# EAGLE library part STM32L151UCY6 (library circuit_tree)
IC
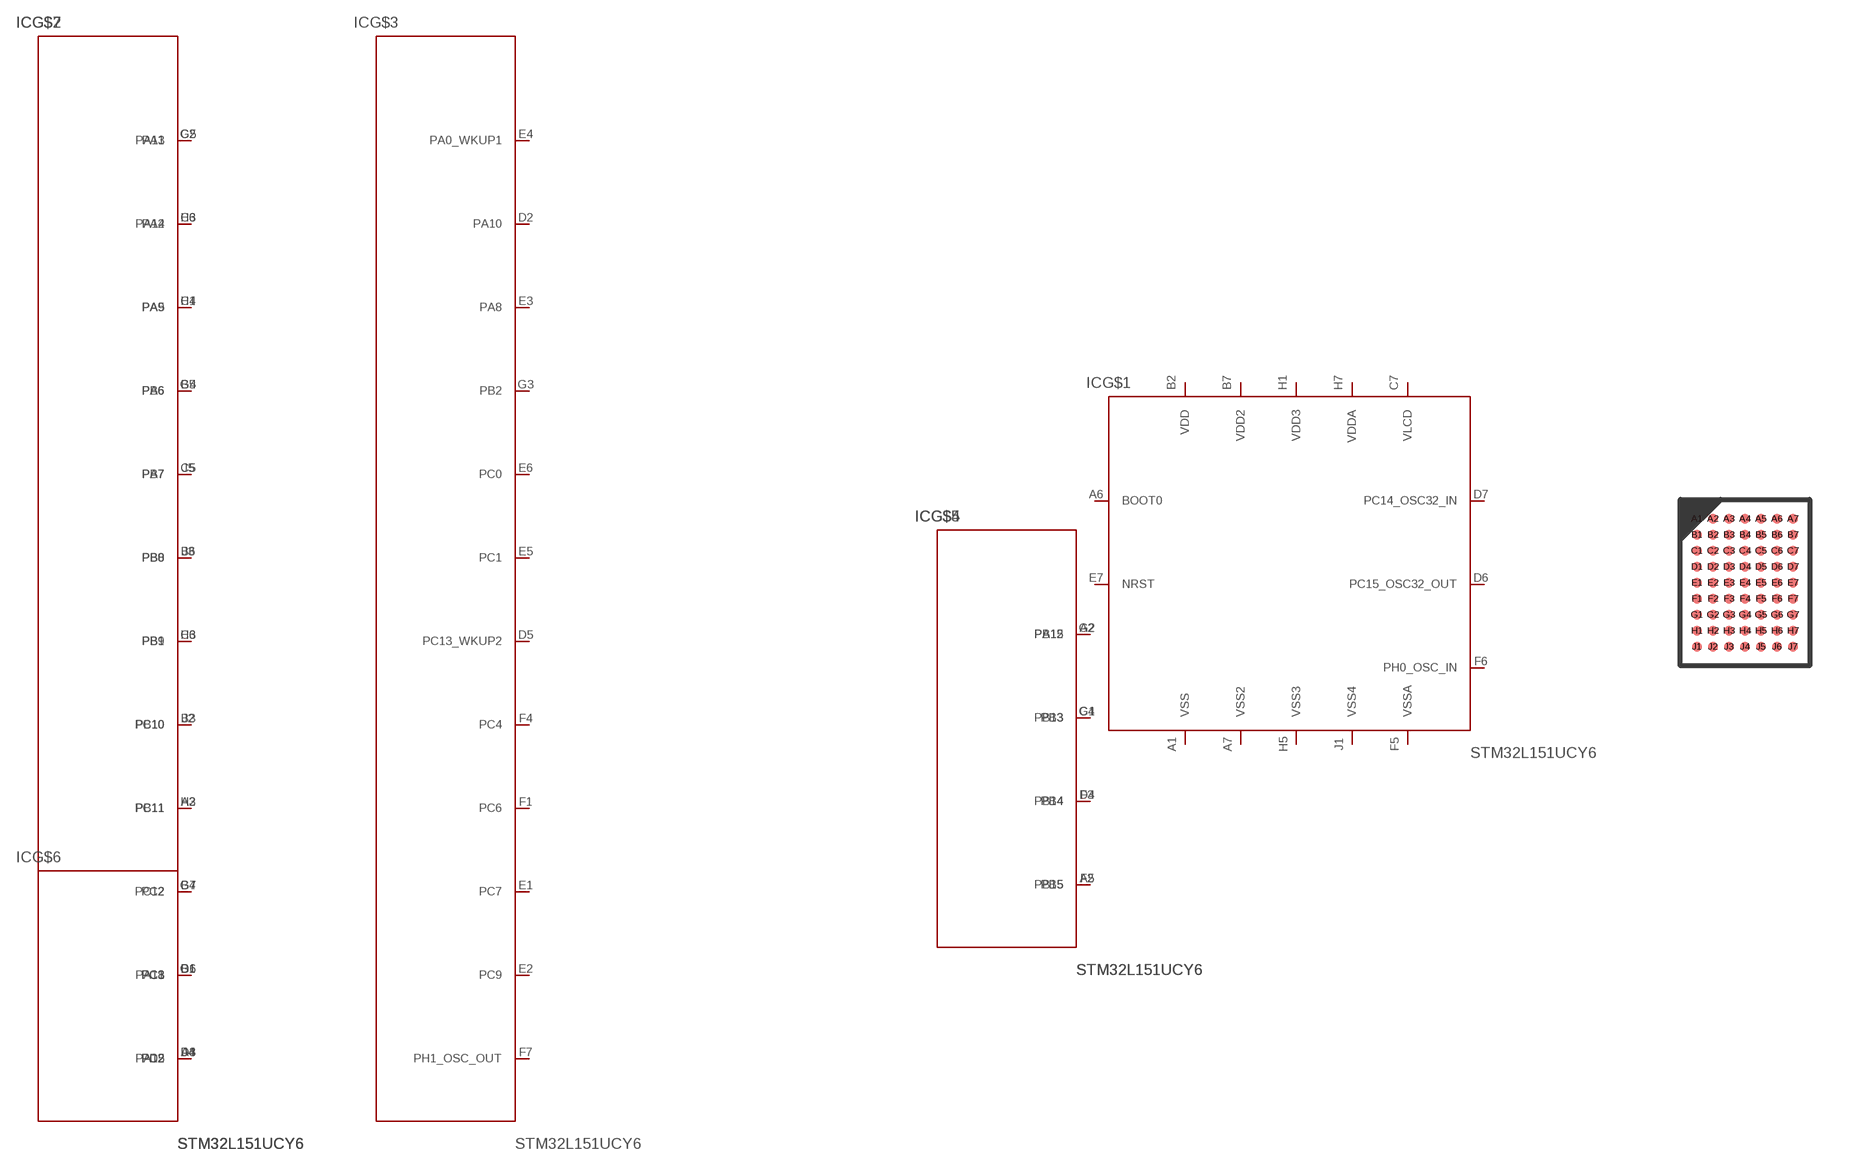
[diagram p4: symbol with the pads of WLCSP63; footprint WLCSP63]

Designator prefix IC; gates G$1=STM32L151UCY6 G$2=STM32L151UCY62 G$3=STM32L151UCY63 G$4=STM32L151UCY64 G$5=STM32L151UCY65 G$6=STM32L151UCY66 G$7=STM32L151UCY67

## STM32L151UCY6  [WLCSP63]
A1  G$1:VSS  pas
A2  G$5:PA15  pas
A3  G$2:PC11  pas
A4  G$2:PD2  pas
A5  G$5:PB5  pas
A6  G$1:BOOT0  pas
A7  G$1:VSS2  pas
B1  G$6:PA11  pas
B2  G$1:VDD  pas
B3  G$2:PC10  pas
B4  G$2:PC12  pas
B5  G$2:PB6  pas
B6  G$2:PB8  pas
B7  G$1:VDD2  pas
C1  G$2:PA9  pas
C2  G$2:PA13  pas
C3  G$2:PA14  pas
C4  G$5:PB3  pas
C5  G$2:PB7  pas
C6  G$2:PB9  pas
C7  G$1:VLCD  pas
D1  G$2:PC8  pas
D2  G$3:PA10  pas
D3  G$6:PA12  pas
D4  G$5:PB4  pas
D5  G$3:PC13_WKUP2  pas
D6  G$1:PC15_OSC32_OUT  pas
D7  G$1:PC14_OSC32_IN  pas
E1  G$3:PC7  pas
E2  G$3:PC9  pas
E3  G$3:PA8  pas
E4  G$3:PA0_WKUP1  pas
E5  G$3:PC1  pas
E6  G$3:PC0  pas
E7  G$1:NRST  pas
F1  G$3:PC6  pas
F2  G$4:PB15  pas
F3  G$4:PB14  pas
F4  G$3:PC4  pas
F5  G$1:VSSA  pas
F6  G$1:PH0_OSC_IN  pas
F7  G$3:PH1_OSC_OUT  pas
G1  G$4:PB13  pas
G2  G$4:PB12  pas
G3  G$3:PB2  pas
G4  G$7:PA6  pas
G5  G$7:PA1  pas
G6  G$7:PC3  pas
G7  G$7:PC2  pas
H1  G$1:VDD3  pas
H2  G$7:PB11  pas
H3  G$7:PB1  pas
H4  G$7:PA5  pas
H5  G$1:VSS3  pas
H6  G$7:PA2  pas
H7  G$1:VDDA  pas
J1  G$1:VSS4  pas
J2  G$7:PB10  pas
J3  G$7:PB0  pas
J4  G$7:PC5  pas
J5  G$7:PA7  pas

## Footprint WLCSP63 (pad centres in mm)
WLCSP63 3.228 x 4.164 mm, 7 x 9-pin 0.4 mm pitch wafer-level chip-scale package
smd 0.25 x 0.25: A1 -1.2,1.6; A2 -0.8,1.6; A3 -0.4,1.6; A4 0,1.6; A5 0.4,1.6; A6 0.8,1.6; A7 1.2,1.6; B1 -1.2,1.2; B2 -0.8,1.2; B3 -0.4,1.2; B4 0,1.2; B5 0.4,1.2; B6 0.8,1.2; B7 1.2,1.2; C1 -1.2,0.8; C2 -0.8,0.8; C3 -0.4,0.8; C4 0,0.8; C5 0.4,0.8; C6 0.8,0.8; C7 1.2,0.8; D1 -1.2,0.4; D2 -0.8,0.4; D3 -0.4,0.4; D4 0,0.4; D5 0.4,0.4; D6 0.8,0.4; D7 1.2,0.4; E1 -1.2,0; E2 -0.8,0; E3 -0.4,0; E4 0,0; E5 0.4,0; E6 0.8,0; E7 1.2,0; F1 -1.2,-0.4; F2 -0.8,-0.4; F3 -0.4,-0.4; F4 0,-0.4; F5 0.4,-0.4; F6 0.8,-0.4; F7 1.2,-0.4; G1 -1.2,-0.8; G2 -0.8,-0.8; G3 -0.4,-0.8; G4 0,-0.8; G5 0.4,-0.8; G6 0.8,-0.8; G7 1.2,-0.8; H1 -1.2,-1.2; H2 -0.8,-1.2; H3 -0.4,-1.2; H4 0,-1.2; H5 0.4,-1.2; H6 0.8,-1.2; H7 1.2,-1.2; J1 -1.2,-1.6; J2 -0.8,-1.6; J3 -0.4,-1.6; J4 0,-1.6; J5 0.4,-1.6; J6 0.8,-1.6; J7 1.2,-1.6